# Altium footprint library PcbLib1.PcbLib: 123 footprints (part 2 of 8)
Each footprint in its own frame and in the unit in brackets; x right, y up, seen from the top. Pads: shape width x height; smd on the part's side, far side on the other; paste and mask are expansions set on the pad; w line width, h text height; cw(c..) or ccw(c..) is an arc to the next point about the centre after c.
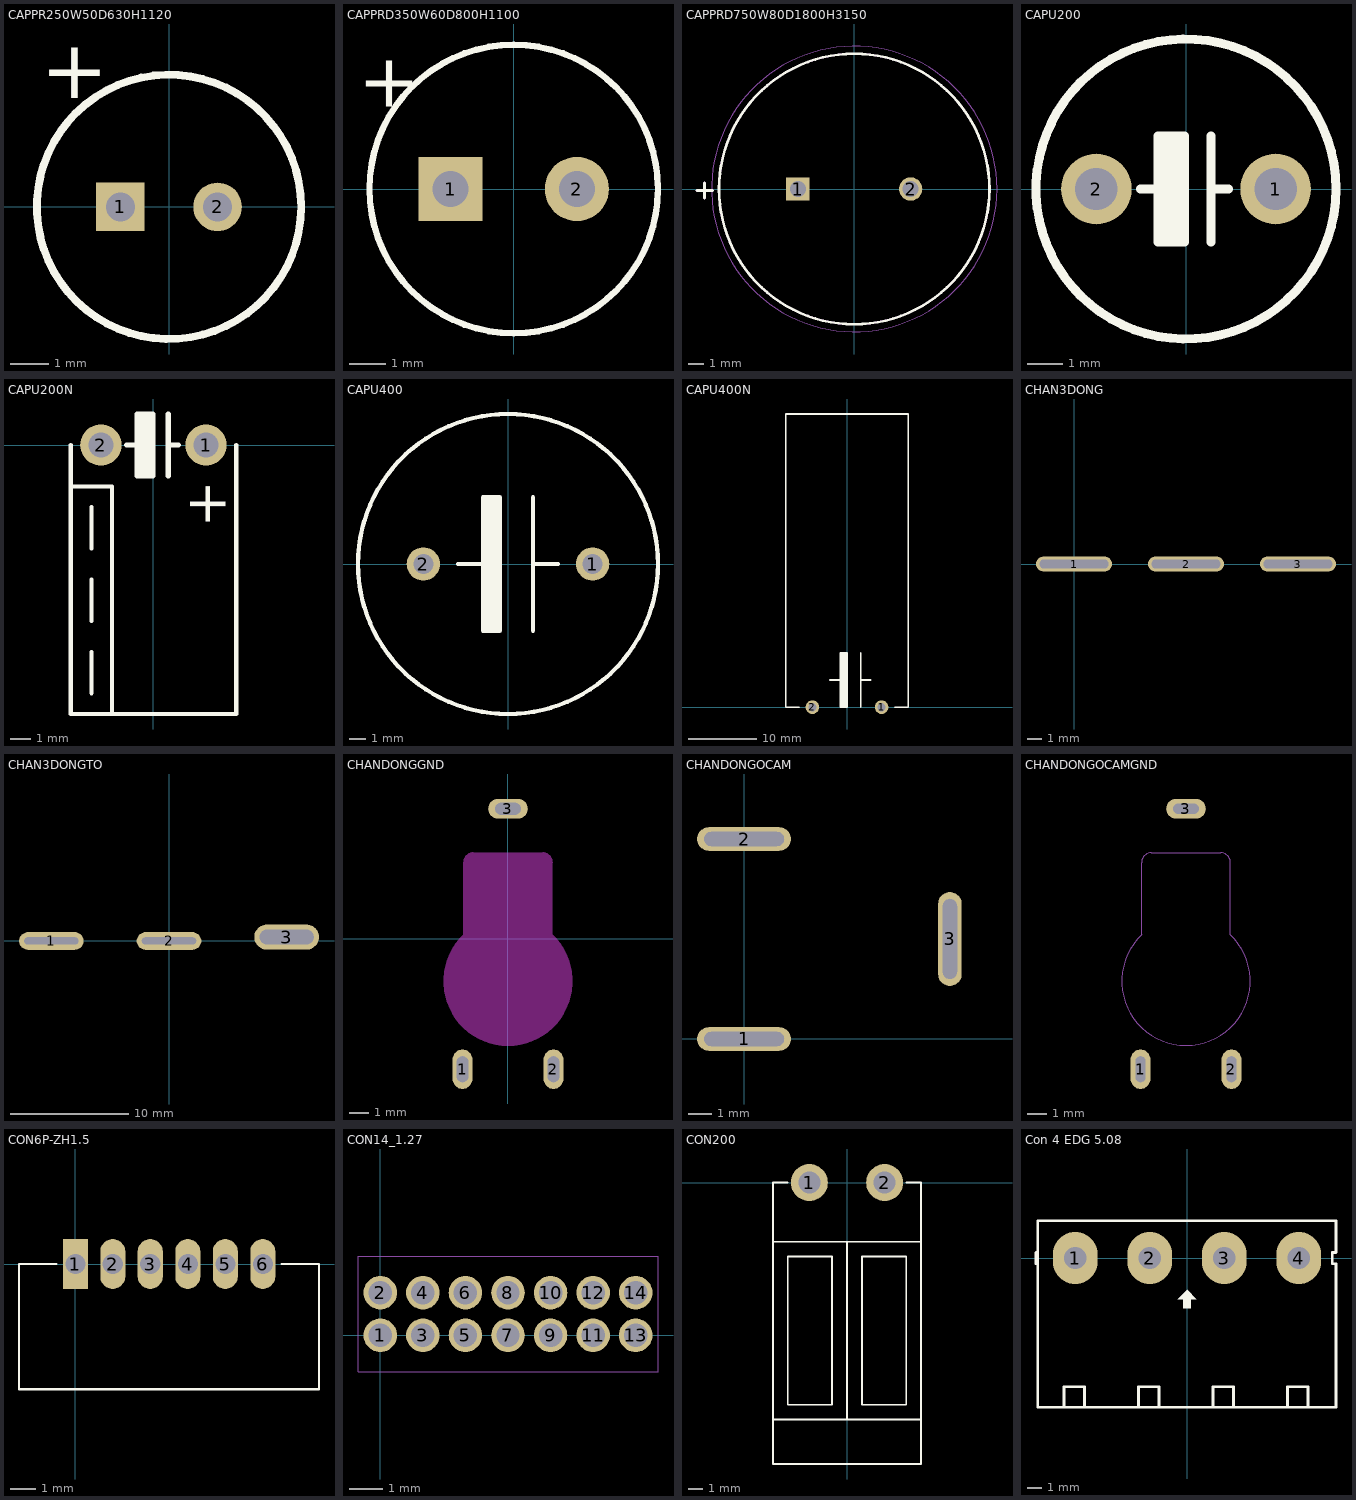
[diagram p1: the footprints below, top view; thin cyan lines are the x and y axes]

## CAPPR250W50D630H1120 [mm] "PANASONIC"
height 11.2
pads (2):
  rect 1.25x1.25 hole 0.75: 1(-1.25,0)
  round 1.25 hole 0.75: 2(1.25,0)
Top Overlay:
  circle w0.2: c0,0 r3.4
  text "+" at -3.302,2.794 h1.52
Mechanical 5:
  circle w0.1: c0,0 r3.4
3D body: height 12.21, standoff -4.5, extent -3.373,-3.395 3.397,3.394

## CAPPRD350W60D800H1100 [mm] "Capacitor, Alum, 8x11mm"
height 12
pads (2):
  rect 1.78x1.78 hole 1: 1(-1.75,0)
  round 1.78 hole 1: 2(1.75,0)
Top Overlay:
  circle w0.178: c0,0 r4
  text "+" at -4.318,2.286 h1.5
Mechanical 5:
  circle w0.1: c0,0 r4
  text "+" at -5.5,0 h1.5
3D body: height 11.79, standoff -3.71, extent -4.025,-4.027 4.026,4.024

## CAPPRD750W80D1800H3150 [mm] "CAPACITOR, POLARIZED, 0.8MM LEAD DIA, PITCH 7.5MM"
height 33
pads (2):
  rect 1.554x1.554 / inner round 1.554 / far side rect 1.554x1.554 hole 1.054: 1(-3.75,0)
  round 1.554 hole 1.054: 2(3.75,0)
Top Overlay:
  circle w0.178: c0,0 r9
  lines w0.2: -10.465,-0.102 -9.449,-0.102 ; -9.957,-0.61 -9.957,0.406
Mechanical 5:
  circle w0.127: c0,0 r9
  lines w0.2: -10.465,-0.102 -9.449,-0.102 ; -9.957,-0.61 -9.957,0.406
Mechanical 15:
  circle w0.05: c0,0 r9.5
3D body: height 33, standoff 0, extent -8.929,-8.982 9,8.982

## CAPU200 [mm]
pads (2):
  round 2 hole 1.2: 1(2.54,0) 2(-2.54,0)
Top Overlay:
  circle w0.254: c0,0 r4.25
  rectangle: -0.79,-1.5 -0.04,1.5
  lines w0.254: -1.29,0 -0.79,0 ; 0.71,-1.5 0.71,1.5 ; 0.71,0 1.21,0 ; -0.79,-1.5 -0.79,1.5 -0.04,1.5 -0.04,-1.5 -0.79,-1.5

## CAPU200N [mm]
pads (2):
  round 2 hole 1.2: 1(2.54,0) 2(-2.54,0)
Top Overlay:
  rectangle: -0.79,-1.5 -0.04,1.5
  lines w0.2: -4,-2 -2,-2 -2,-13 ; -4,0 -4,-13 4,-13 4,0 ; -3,-12 -3,-10 ; -3,-8.5 -3,-6.5 ; -3,-5 -3,-3
  lines w0.254: -1.29,0 -0.79,0 ; 0.71,-1.5 0.71,1.5 ; 0.71,0 1.21,0 ; -0.79,-1.5 -0.04,-1.5 -0.04,1.5 -0.79,1.5 -0.79,-1.5
  text "+" at 3.5,-4 h2

## CAPU400 [mm]
pads (2):
  round 2 hole 1.2: 1(5.08,0) 2(-5.08,0)
Top Overlay:
  circle w0.254: c0,0 r9
  rectangle: -1.5,-4 -0.5,4
  lines w0.254: -3,0 -1.5,0 ; 1.5,-4 1.5,4 ; 1.5,0 3,0 ; -1.5,-4 -1.5,4 -0.5,4 -0.5,-4 -1.5,-4

## CAPU400N [mm]
pads (2):
  round 2 hole 1.2: 1(5.08,0) 2(-5.08,0)
Top Overlay:
  rectangle: -1,0 0,8
  lines w0.254: -7,0 -9,0 -9,43 9,43 9,0 7,0 ; -2.5,4 -1,4 ; 2,0 2,8 ; 2,4 3.5,4 ; -1,0 -1,8 0,8 0,0 -1,0

## CHAN3DONG [mm]
pads (3):
  oval 5.1x1 hole 0.6 slot 4.6 at 0 deg: 1(0,0) 2(7.5,0) 3(15,0)
Mechanical 1:
  lines w0.013: -1.9,-0.425 cw(c-1.9,0) -1.9,0.425 1.9,0.425 cw(c1.9,0) 1.9,-0.425 -1.9,-0.425 ; 5.6,-0.425 cw(c5.6,0) 5.6,0.425 9.4,0.425 cw(c9.4,0) 9.4,-0.425 5.6,-0.425 ; 13.1,-0.425 cw(c13.1,0) 13.1,0.425 16.9,0.425 cw(c16.9,0) 16.9,-0.425 13.1,-0.425
  lines w0.05: 0,-0.425 0,0.425 ; 7.5,-0.425 7.5,0.425 ; 15,-0.425 15,0.425

## CHAN3DONGTO [mm]
pads (3):
  oval 5.5x1.5 hole 0.6 slot 4.6 at 0 deg: 1(-10,0) 2(0,0)
  oval 5.5x2.15 hole 1.25 slot 4.6 at 0 deg: 3(10,0.33)
3D body: height 10.4, standoff -3, extent -13,-5.15 -7,0.15
3D body: height 10.4, standoff -3, extent -3,-5.05 3,0.25
3D body: height 10.4, standoff -3, extent 7,-5.05 13,0.25

## CHANDONGGND [mm]
pads (3):
  oval 1x2 hole 0.6 slot 1.3 at 90 deg: 1(-2.3,-6.586) 2(2.3,-6.586)
  oval 2x1 hole 0.6 slot 1.3 at 0 deg: 3(0,6.586)
Keep-Out Layer:
  board cut-out: -2.254,0.213 -2.305,0.17 -2.637,-0.219 -2.905,-0.656 -3.1,-1.128 -3.22,-1.626 -3.26,-2.136 -3.22,-2.646 -3.1,-3.143 -2.905,-3.616 -2.637,-4.052 -2.305,-4.441 -1.916,-4.773 -1.48,-5.04 -1.007,-5.236 -0.51,-5.356 0,-5.396 0.51,-5.356 1.007,-5.236 1.48,-5.04 1.916,-4.773 2.305,-4.441 2.637,-4.052 2.905,-3.616 3.1,-3.143 3.22,-2.646 3.26,-2.136 3.22,-1.626 3.1,-1.128 2.905,-0.656 2.637,-0.219 2.305,0.17 2.254,0.213 2.25,0.21 2.25,3.864 2.26,3.864 2.221,4.059 2.11,4.225 1.945,4.335 1.75,4.374 1.75,4.364 -1.75,4.374 -1.945,4.335 -2.11,4.225 -2.221,4.059 -2.26,3.864 -2.25,3.864
  lines w0.013: -2.25,0.21 ccw(c0,-2.136) 2.25,0.21 2.25,3.864 ccw(c1.75,3.864) 1.75,4.364 -1.75,4.364 ccw(c-1.75,3.864) -2.25,3.864 -2.25,0.21

## CHANDONGOCAM [mm]
pads (3):
  oval 4x1 hole 0.6 slot 3.4 at 0 deg: 1(0,0) 2(0,8.5)
  oval 1x4 hole 0.6 slot 3.4 at 90 deg: 3(8.75,4.25)
Mechanical 1:
  lines w0.013: -1.4,-0.3 cw(c-1.4,0) -1.4,0.3 1.4,0.3 cw(c1.4,0) 1.4,-0.3 -1.4,-0.3 ; -1.4,8.2 cw(c-1.4,8.5) -1.4,8.8 1.4,8.8 cw(c1.4,8.5) 1.4,8.2 -1.4,8.2 ; 8.45,2.85 ccw(c8.75,2.85) 9.05,2.85 9.05,5.65 ccw(c8.75,5.65) 8.45,5.65 8.45,2.85
  lines w0.05: 0,-0.3 0,0.3 ; 0,8.2 0,8.8 ; 8.45,4.25 9.05,4.25

## CHANDONGOCAMGND [mm]
pads (3):
  oval 1x2 hole 0.5 slot 1.3 at 90 deg: 1(-1248.65,-1155.35) 2(-1244.05,-1155.35)
  oval 2x1 hole 0.5 slot 1.3 at 0 deg: 3(-1246.35,-1142.179)
Mechanical 1:
  lines w0.013: -1248.9,-1155.75 ccw(c-1248.65,-1155.75) -1248.4,-1155.75 -1248.4,-1154.95 ccw(c-1248.65,-1154.95) -1248.9,-1154.95 -1248.9,-1155.75 ; -1248.6,-1148.555 ccw(c-1246.35,-1150.9) -1244.1,-1148.555 -1244.1,-1144.9 ccw(c-1244.6,-1144.9) -1244.6,-1144.4 -1248.1,-1144.4 ccw(c-1248.1,-1144.9) -1248.6,-1144.9 -1248.6,-1148.555 ; -1246.75,-1142.429 cw(c-1246.75,-1142.179) -1246.75,-1141.929 -1245.95,-1141.929 cw(c-1245.95,-1142.179) -1245.95,-1142.429 -1246.75,-1142.429 ; -1244.3,-1155.75 ccw(c-1244.05,-1155.75) -1243.8,-1155.75 -1243.8,-1154.95 ccw(c-1244.05,-1154.95) -1244.3,-1154.95 -1244.3,-1155.75
  lines w0.05: -1248.9,-1155.35 -1248.4,-1155.35 ; -1246.35,-1142.429 -1246.35,-1141.929 ; -1244.3,-1155.35 -1243.8,-1155.35

## CON6P-ZH1.5 [mm] "CON6"
pads (6):
  rect 1x2 hole 0.8 paste+0: 1(0,0)
  oval 1x2 hole 0.8 paste+0: 2(1.5,0) 3(3,0) 4(4.5,0) 5(6,0) 6(7.5,0)
Top Overlay:
  lines w0.1: -0.75,0 -2.25,0 -2.25,-5 9.75,-5 9.75,0 8.25,0

## CON14_1.27 [mm]
pads (14):
  round 1 hole 0.7: 1(0,0) 2(0,1.27) 3(1.27,0) 4(1.27,1.27) 5(2.54,0) 6(2.54,1.27) 7(3.81,0) 8(3.81,1.27) 9(5.08,0) 10(5.08,1.27) 11(6.35,0) 12(6.35,1.27) 13(7.62,0) 14(7.62,1.27)
Mechanical 1:
  circle w0.013: c7.62,1.27 r0.3
  circle w0.013: c7.62,0 r0.3
  circle w0.013: c6.35,0 r0.3
  circle w0.013: c3.81,1.27 r0.3
  circle w0.013: c5.08,1.27 r0.3
  circle w0.013: c5.08,0 r0.3
  circle w0.013: c3.81,0 r0.3
  circle w0.013: c2.54,0 r0.3
  circle w0.013: c1.27,0 r0.3
  circle w0.013: c0,0 r0.3
  circle w0.013: c6.35,1.27 r0.3
  circle w0.013: c0,1.27 r0.3
  circle w0.013: c1.27,1.27 r0.3
  circle w0.013: c2.54,1.27 r0.3
  lines w0.013: -0.665,-1.09 -0.665,2.36 8.285,2.36 8.285,-1.09 -0.665,-1.09
  lines w0.1: 0,-0.3 0,0.3

## CON200 [mm]
pads (2):
  round 2.5 hole 1.5: 1(-2.54,0) 2(2.54,0)
Top Overlay:
  lines w0.127: -5,-16 5,-16 ; -5,-4 5,-4 ; -4,0 -5,0 -5,-19 5,-19 5,0 4,0 ; 0,-16 0,-4 ; -4,-15 -1,-15 -1,-5 -4,-5 -4,-15 ; 1,-15 1,-5 4,-5 4,-15 1,-15

## Con 4 EDG 5.08 [mil]
pads (4):
  oval 120x140 hole 60: 1(-300,0) 2(-100,0) 3(100,0) 4(300,0)
Top Overlay:
  region: 0,-85 -25,-110 -10,-110 -10,-135 10,-135 10,-110 25,-110
  lines w7: -405.2,-15.2 -405.2,14.8 ; -330.2,-400.2 -330.2,-345.2 -275.2,-345.2 -275.2,-400.2 ; -130.2,-400.2 -130.2,-345.2 -75.2,-345.2 -75.2,-400.2 ; 69.8,-400.2 69.8,-345.2 124.8,-345.2 124.8,-400.2 ; 269.8,-395.2 269.8,-346 ; 269.8,-345.2 324.8,-345.2 ; 324.8,-395.2 324.8,-346 ; -400.2,-400.2 399.8,-400.2 399.8,-15.2 389.8,-15.2 389.8,14.8 399.8,14.8 399.8,99.8 -400.2,99.8 -400.2,-400.2
3D body: height 334.11, standoff -156.88, extent 1.24,-402.42 198.09,70.02
3D body: height 334.11, standoff -156.88, extent -396.19,-402.42 -199.34,70.02
3D body: height 334.11, standoff -156.88, extent -197.48,-402.42 -0.63,70.02
3D body: height 334.11, standoff -156.88, extent 199.95,-402.42 396.8,70.02